# EAGLE library part 6871XX183622_687128183622 (library 68611414422)
WR-FPC 0.50 mm SMT ZIF Horizontal Top Contact Low Profile KIND PROPERTIES Pitch 0.5 mm MATERIAL PROPERTIES Insulator Material LCP Contact Material Phosphor Bronze Contact Plating 120 (µ") Tin over 30 (µ") Nickel Contact Type Stamped Solder Tabs Brass <https://www.we-online.com/catalog/media/o83990v209%20Family_WR-FPC_6871xx183622.jpg> Details see: https://www.we-online.com/catalog/en/FPC_0_5_SMT_ZIF_HORIZONTAL_TOP_CONTACT_LOW_PROFILE_6871xx183622/ Updated by Ella Wu 2020-08-26 2020(C) Wurth Elektronik
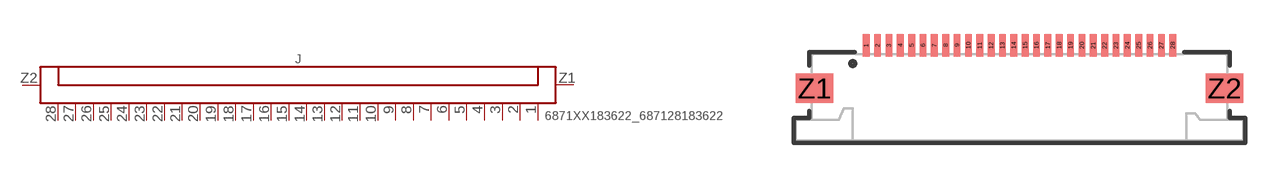
[diagram p114: symbol with the pads of 687128183622; footprint 687128183622]

Designator prefix J

## 6871XX183622_687128183622 (CONTACT-RESISTANCE: 30mOhm; DATASHEET-URL: https://www.we-online.com/catalog/datasheet/687128183622.pdf; IR: 0.4A; L: 19.7mm; PACKAGING: Tape and Reel; PART-NUMBER: 687128183622; PINS: 28; PITCH: 0.5mm; TYPE: Horizontal; VALUE: 687128183622; WORKING-VOLTAGE: 50V(AC))  [687128183622]
1  1  pas
2  2  pas
3  3  pas
4  4  pas
5  5  pas
6  6  pas
7  7  pas
8  8  pas
9  9  pas
10  10  pas
11  11  pas
12  12  pas
13  13  pas
14  14  pas
15  15  pas
16  16  pas
17  17  pas
18  18  pas
19  19  pas
20  20  pas
21  21  pas
22  22  pas
23  23  pas
24  24  pas
25  25  pas
26  26  pas
27  27  pas
28  28  pas
Z1  Z1  pas
Z2  Z2  pas

## Footprint 687128183622 (pad centres in mm)
WR-FPC 0.50 mm SMT ZIF Horizontal Top Contact Low Profile,28Pins
smd 0.3 x 1: 1 -6.75,2.3; 2 -6.25,2.3; 3 -5.75,2.3; 4 -5.25,2.3; 5 -4.75,2.3; 6 -4.25,2.3; 7 -3.75,2.3; 8 -3.25,2.3; 9 -2.75,2.3; 10 -2.25,2.3; 11 -1.75,2.3; 12 -1.25,2.3; 13 -0.75,2.3; 14 -0.25,2.3; 15 0.25,2.3; 16 0.75,2.3; 17 1.25,2.3; 18 1.75,2.3; 19 2.25,2.3; 20 2.75,2.3; 21 3.25,2.3; 22 3.75,2.3; 23 4.25,2.3; 24 4.75,2.3; 25 5.25,2.3; 26 5.75,2.3; 27 6.25,2.3; 28 6.75,2.3
smd 1.65 x 1.3: Z1 -9.025,0.4; Z2 9.025,0.4